# Altium footprint library HoYLR2512-3W-10mR-1%.PcbLib: 1 footprints
Each footprint in its own frame and in the unit in brackets; x right, y up, seen from the top. Pads: shape width x height; smd on the part's side, far side on the other; paste and mask are expansions set on the pad; w line width, h text height; cw(c..) or ccw(c..) is an arc to the next point about the centre after c.
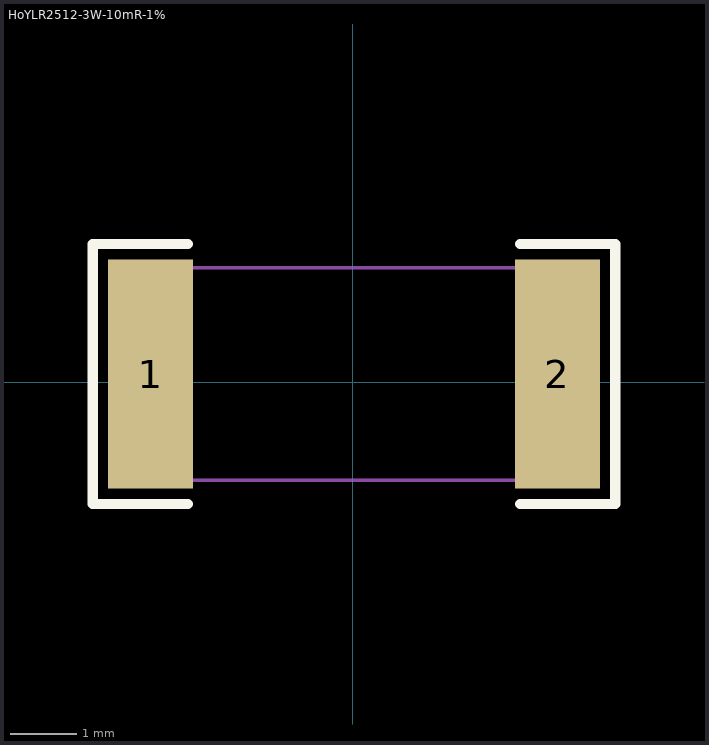
[diagram p0: the footprint, top view; thin cyan lines are the x and y axes]

## HoYLR2512-3W-10mR-1% [mil]
pads (2):
  rect 50.49x136.06 smd paste-3937.01 mask+2: 1(-120,5) 2(121.44,5)
Top Overlay:
  lines w6: -97.75,-72.03 -154.25,-72.03 -154.25,82.03 -97.75,82.03 ; 99.19,-72.03 155.69,-72.03 155.69,82.03 99.19,82.03
Top Paste:
  region: -94.75,-59.09 -94.75,-22.07 -98.69,-18.13 -107.98,-18.13 -111.92,-14.19 -111.92,24.19 -107.98,28.13 -98.69,28.13 -94.75,32.07 -94.75,69.09 -98.69,73.03 -141.31,73.03 -145.25,69.09 -145.25,-59.09 -141.31,-63.03 -98.69,-63.03
  region: 96.19,-59.09 96.19,-22.07 100.13,-18.13 109.42,-18.13 113.36,-14.19 113.36,24.19 109.42,28.13 100.13,28.13 96.19,32.07 96.19,69.09 100.13,73.03 142.75,73.03 146.69,69.09 146.69,-59.09 142.75,-63.03 100.13,-63.03
Mechanical 15:
  region: 101.11,-57.99 101.11,67.99 124.74,67.99 124.74,-57.99
  region: -123.3,-57.99 -123.3,67.99 -99.67,67.99 -99.67,-57.99
  region: -121.92,-57.99 -121.92,-57.01 -123.3,-55.63 -125.26,-55.63 -126.65,-57.01 -126.65,-57.99 -126.65,-58.97 -125.26,-60.35 -123.3,-60.35 -121.92,-58.97 -121.92,-57.99
  lines w2: -123.3,-57.99 124.74,-57.99 124.74,67.99 -123.3,67.99 -123.3,-57.99